# Altium footprint library IC_SOT.PcbLib: 31 footprints (part 2 of 2)
Each footprint in its own frame and in the unit in brackets; x right, y up, seen from the top. Pads: shape width x height; smd on the part's side, far side on the other; paste and mask are expansions set on the pad; w line width, h text height; cw(c..) or ccw(c..) is an arc to the next point about the centre after c.
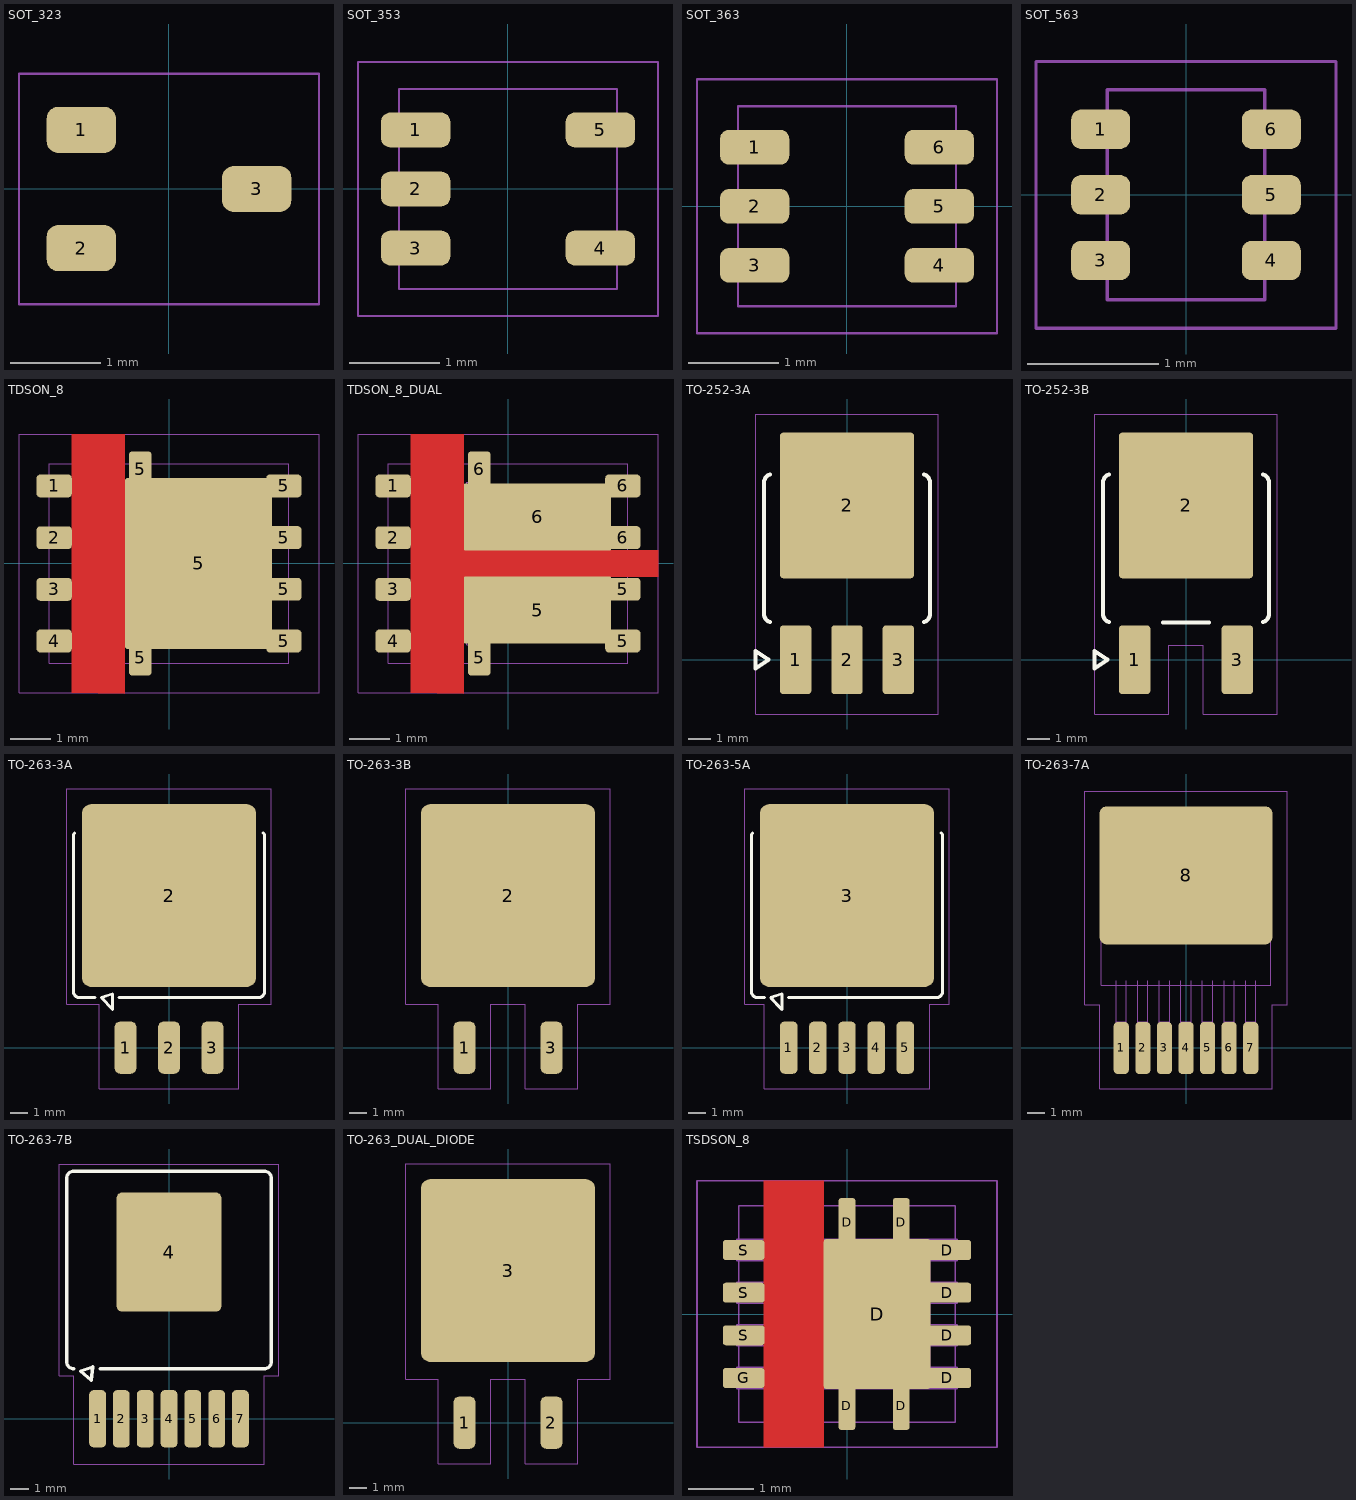
[diagram p1: the footprints below, top view; thin cyan lines are the x and y axes]

## SOT_323 [mil] "SC70"
pads (3):
  rrect50% 30x20 smd: 1(-38,25.6) 2(-38,-25.6) 3(38,0)
Top Courtyard:
  lines w1: -65,-50 65,-50 65,50 -65,50 -65,-50
3D body "SOT323.STEP": height 39.37, standoff 0, extent -45.28,-41.34 45.28,41.33

## SOT_353 [mil] "5-Lead SC70"
pads (5):
  rrect50% 30x15 smd mask+2: 1(-40,25.59) 2(-40,0) 3(-40,-25.59) 4(40,-25.59) 5(40,25.59)
Top Courtyard:
  lines w1: -65,-55 65,-55 65,55 -65,55 -65,-55
Top Component Outline:
  lines w1: -47.24,-43.31 47.25,-43.31 47.25,43.3 -47.24,43.3 -47.24,-43.31
3D body "SOT353.step": height 43.31, standoff 0, extent -47.24,-43.31 47.25,43.3

## SOT_363 [mil] "6-Lead SC70"
pads (6):
  rrect50% 30x15 smd mask+2: 1(-40,25.59) 2(-40,0) 3(-40,-25.59) 4(40,-25.59) 5(40,0) 6(40,25.59)
Top Solder:
  region: -17,54 -7,70 -27,70
Top Courtyard:
  lines w1: -65,-55 -65,55 65,55 65,-55 -65,-55
Top Component Outline:
  lines w1: -47.24,-43.31 -47.24,43.3 47.25,43.3 47.25,-43.31 -47.24,-43.31
3D body "SOT363.STEP": height 43.31, standoff 0, extent -47.24,-43.31 47.25,43.3

## SOT_563 [mm] "6-Lead SOT-563"
pads (6):
  rrect50% 0.45x0.3 smd mask+0.038: 1(-0.65,0.5) 2(-0.65,0) 3(-0.65,-0.5) 4(0.65,-0.5) 5(0.65,0) 6(0.65,0.5)
Top Solder:
  region: -0.724,0.826 -0.546,1.105 -0.902,1.105
Top Courtyard:
  lines w0.025: -1.143,-1.016 1.143,-1.016 1.143,1.016 -1.143,1.016 -1.143,-1.016
Top Component Outline:
  lines w0.025: -0.8,-0.6 -0.8,-0.4 -0.5,-0.4 -0.5,-0.6 -0.8,-0.6 ; -0.8,-0.1 -0.5,-0.1 -0.5,0.1 -0.8,0.1 -0.8,-0.1 ; -0.8,0.4 -0.8,0.6 -0.5,0.6 -0.5,0.4 -0.8,0.4 ; -0.6,-0.8 0.6,-0.8 0.6,0.8 -0.6,0.8 -0.6,-0.8 ; 0.5,-0.6 0.5,-0.4 0.8,-0.4 0.8,-0.6 0.5,-0.6 ; 0.5,-0.1 0.8,-0.1 0.8,0.1 0.5,0.1 0.5,-0.1 ; 0.5,0.4 0.5,0.6 0.8,0.6 0.8,0.4 0.5,0.4
3D body "User Library-SOT-563.step": height 0.57, standoff -0.01, extent -0.813,-0.8 0.813,0.8

## TDSON_8 [mil]
pads (11):
  rrect30% 34x22 smd mask+2: 1(-111,74.95) 2(-111,24.95) 3(-111,-25.05) 4(-111,-74.95) 5(111,-74.95) 5(111,-24.95) 5(111,25.05) 5(111,74.95)
  rrect30% 22x34 smd mask+2: 5(-27.81,-91.31) 5(-27.8,91.31)
  rrect3% 142x165 smd paste-200 mask+2: 5(28.54,0)
Top Layer:
  pour cut-out: -94,125 -43,125 -43,-126 -94,-125
Top Paste:
  rectangle: -35,10 20,65
  rectangle: 35,10 85,70
  rectangle: 35,-70 85,-10
  rectangle: -35,-65 20,-10
Top Courtyard:
  lines w1: -145,-125 145,-125 145,125 -145,125 -145,-125
Top Component Outline:
  lines w1: 97.05,82.97 115.94,82.97 121.06,81.99 121.06,67.81 115.94,66.83 97.05,66.83 97.05,33.07 115.94,33.07 121.06,32.09 121.06,17.91 115.94,16.93 97.05,16.93 97.05,-16.93 115.94,-16.93 121.06,-17.91 121.06,-32.09 115.94,-33.07 97.05,-33.07 97.05,-66.83 115.94,-66.83 121.06,-67.81 121.06,-81.99 115.94,-82.97 97.05,-82.97 97.05,-74.02 -19.68,-74.02 -19.68,-96.46 -20.67,-101.38 -34.84,-101.38 -35.83,-96.46 -35.83,-78.35 -39.96,-78.35 -39.96,78.35 -35.83,78.35 -35.83,96.46 -34.84,101.38 -20.67,101.38 -19.68,96.46 -19.68,74.02 97.05,74.02 97.05,83.07 ; -121.06,-81.99 -115.94,-82.97 -97.05,-82.97 -97.05,-66.83 -115.94,-66.83 -121.06,-67.81 -121.06,-81.99 ; -121.06,-32.09 -121.06,-17.91 -115.94,-16.93 -97.05,-16.93 -97.05,-33.07 -115.94,-33.07 -121.06,-32.09 ; -121.06,17.91 -115.94,16.93 -97.05,16.93 -97.05,33.07 -115.94,33.07 -121.06,32.09 -121.06,17.91 ; -121.06,67.91 -121.06,82.09 -115.94,83.07 -97.05,83.07 -97.05,66.93 -115.94,66.93 -121.06,67.91 ; -115.94,-96.46 115.94,-96.46 115.94,96.46 -115.94,96.46 -115.94,-96.46
3D body: height 41, standoff 40, extent -89.91,50.03 -69.99,69.99
3D body: height 11.02, standoff 0, extent -121.06,16.83 -97.05,33.07
3D body: height 11.02, standoff 0, extent -121.06,-33.17 -97.05,-16.93
3D body: height 11.02, standoff 0, extent -121.06,66.83 -97.05,83.07
3D body: height 11.02, standoff 0, extent -121.06,-83.07 -97.05,-66.83
3D body: height 11.02, standoff 0, extent -39.96,-101.38 121.06,101.38
3D body: height 40.94, standoff 0, extent -115.94,-96.46 115.94,96.46

## TDSON_8_DUAL [mil]
pads (12):
  rrect30% 34x22 smd mask+2: 1(-111,74.95) 2(-111,24.95) 3(-111,-25.05) 4(-111,-74.95) 5(111,-74.95) 5(111,-24.95) 6(111,25.05) 6(111,74.95)
  rrect30% 22x34 smd mask+2: 5(-27.81,-91.31) 6(-27.8,91.31)
  rrect3% 142x65 smd paste-200 mask+2: 5(28.54,-45) 6(28.54,45)
Top Layer:
  pour cut-out: -47,13 -47,-13 145,-13 145,13
  pour cut-out: -94,125 -43,125 -43,-126 -94,-125
Top Paste:
  rectangle: -35,-65 20,-20
  rectangle: 35,-70 85,-20
  rectangle: 35,20 85,70
  rectangle: -35,20 20,65
Top Courtyard:
  lines w1: -145,-125 -145,125 145,125 145,-125 -145,-125
Top Component Outline:
  lines w1: 97.05,-83.07 97.05,-74.02 -19.68,-74.02 -19.68,-96.46 -20.67,-101.38 -34.84,-101.38 -35.83,-96.46 -35.83,-78.35 -39.96,-78.35 -39.96,-14.96 97.05,-14.96 97.05,-16.93 115.94,-16.93 121.06,-17.91 121.06,-32.09 115.94,-33.07 97.05,-33.07 97.05,-66.83 115.94,-66.83 121.06,-67.81 121.06,-81.99 115.94,-82.97 97.05,-82.97 ; 97.05,82.97 115.94,82.97 121.06,81.99 121.06,67.81 115.94,66.83 97.05,66.83 97.05,33.07 115.94,33.07 121.06,32.09 121.06,17.91 115.94,16.93 97.05,16.93 97.05,14.96 -39.96,14.96 -39.96,78.35 -35.83,78.35 -35.83,96.46 -34.84,101.38 -20.67,101.38 -19.68,96.46 -19.68,74.02 97.05,74.02 97.05,83.07 ; -121.06,-81.99 -121.06,-67.81 -115.94,-66.83 -97.05,-66.83 -97.05,-82.97 -115.94,-82.97 -121.06,-81.99 ; -121.06,-32.09 -115.94,-33.07 -97.05,-33.07 -97.05,-16.93 -115.94,-16.93 -121.06,-17.91 -121.06,-32.09 ; -121.06,17.91 -121.06,32.09 -115.94,33.07 -97.05,33.07 -97.05,16.93 -115.94,16.93 -121.06,17.91 ; -121.06,67.91 -115.94,66.93 -97.05,66.93 -97.05,83.07 -115.94,83.07 -121.06,82.09 -121.06,67.91 ; -115.94,-96.46 -115.94,96.46 115.94,96.46 115.94,-96.46 -115.94,-96.46
3D body: height 41, standoff 40, extent -89.91,50.03 -69.99,69.99
3D body: height 40.94, standoff 0, extent -115.94,-96.46 115.94,96.46
3D body: height 11.02, standoff 0, extent -39.96,-101.38 121.06,-14.96
3D body: height 11.02, standoff 0, extent -39.96,14.96 121.06,101.38
3D body: height 11.02, standoff 0, extent -121.06,-83.07 -97.05,-66.83
3D body: height 11.02, standoff 0, extent -121.06,66.83 -97.05,83.07
3D body: height 11.02, standoff 0, extent -121.06,-33.17 -97.05,-16.93
3D body: height 11.02, standoff 0, extent -121.06,16.83 -97.05,33.07

## TO-252-3A [mil]
pads (4):
  rrect20% 55x120 smd paste-10: 1(-90,0) 3(90,0)
  rrect20% 55x120 smd: 2(0,0)
  rrect5% 235x255 smd paste-50: 2(0,270)
Top Overlay:
  lines w7: -134.89,65.82 cw(c-130,80) -145,80 -145,310 cw(c-130,310) -134.89,324.18 ; 134.89,65.82 ccw(c130,80) 145,80 145,310 ccw(c130,310) 134.89,324.18 ; -160,-15 -137,0 -160,15 -160,-15
Top Courtyard:
  lines w1: -160,-95 -160,430 160,430 160,-95 -160,-95
3D body: height 80, standoff 0, extent -130,80 130,310
3D body: height 55, standoff 40, extent -110,40 -70,135
3D body: height 55, standoff 0, extent -105,25 -75,40
3D body: height 15, standoff 0, extent -105,-50 -75,25
3D body: height 15, standoff 0, extent 75,-50 105,25
3D body: height 55, standoff 0, extent 75,25 105,40
3D body: height 55, standoff 40, extent 70,40 110,135
3D body: height 55, standoff 40, extent -20,40 20,135
3D body: height 20, standoff 0, extent -100,180 100,380
3D body: height 15, standoff 0, extent -15,-50 15,25
3D body: height 55, standoff 0, extent -15,25 15,40

## TO-252-3B [mil]
pads (3):
  rrect20% 55x120 smd paste-10: 1(-90,0) 3(90,0)
  rrect5% 235x255 smd paste-50: 2(0,270)
Top Overlay:
  lines w7: -134.89,65.82 cw(c-130,80) -145,80 -145,310 cw(c-130,310) -134.89,324.18 ; -40,65 40,65 ; 134.89,65.82 ccw(c130,80) 145,80 145,310 ccw(c130,310) 134.89,324.18 ; -160,-15 -137,0 -160,15 -160,-15
Top Courtyard:
  lines w1: -160,-95 -30,-95 -30,25 30,25 30,-95 160,-95 160,430 -160,430 -160,-95
3D body: height 80, standoff 0, extent -130,80 130,310
3D body: height 55, standoff 40, extent -110,40 -70,135
3D body: height 55, standoff 0, extent -105,25 -75,40
3D body: height 15, standoff 0, extent -105,-50 -75,25
3D body: height 15, standoff 0, extent 75,-50 105,25
3D body: height 55, standoff 0, extent 75,25 105,40
3D body: height 55, standoff 40, extent 70,40 110,135
3D body: height 55, standoff 40, extent -20,40 20,135
3D body: height 20, standoff 0, extent -100,180 100,380

## TO-263-3A [mil]
pads (4):
  rrect50% 50x120 smd: 1(-100,0) 2(0,0) 3(100,0)
  rrect10% 400x420 smd: 2(0,350)
Top Overlay:
  lines w7: -217,494 ccw(c-205,485) -220,485 -220,130 ccw(c-205,130) -205,115 -170,115 ; -115,115 205,115 ccw(c205,130) 220,130 220,485 ccw(c205,485) 216.79,494.27 ; -155,115 -130,124 -130,88 -155,115
Top Courtyard:
  lines w1: -235,100 -160,100 -160,-95 160,-95 160,100 235,100 235,595 -235,595 -235,100
3D body: height 55, standoff 40, extent 80,55 120,150
3D body: height 55, standoff 0, extent 85,40 115,55
3D body: height 15, standoff 0, extent 85,-35 115,40
3D body: height 55, standoff 40, extent -120,55 -80,150
3D body: height 55, standoff 0, extent -115,40 -85,55
3D body: height 15, standoff 0, extent -115,-35 -85,40
3D body: height 50, standoff 0, extent -201,450 201,530
3D body: height 180, standoff 0, extent -200,140 200,480
3D body: height 181, standoff 179, extent -163,172 -137,198
3D body: height 15, standoff 0, extent -15,-35 15,40
3D body: height 55, standoff 0, extent -15,40 15,55
3D body: height 55, standoff 40, extent -20,55 20,150

## TO-263-3B [mil]
pads (3):
  rrect50% 50x120 smd: 1(-100,0) 3(100,0)
  rrect10% 400x420 smd: 2(0,350)
Top Courtyard:
  lines w1: -235,100 -235,595 235,595 235,100 160,100 160,-95 40,-95 40,100 -40,100 -40,-95 -160,-95 -160,100 -235,100
3D body: height 181, standoff 179, extent -163,172 -137,198
3D body: height 180, standoff 0, extent -200,140 200,480
3D body: height 50, standoff 0, extent -201,450 201,530
3D body: height 15, standoff 0, extent -115,-35 -85,40
3D body: height 55, standoff 0, extent -115,40 -85,55
3D body: height 55, standoff 40, extent -120,55 -80,150
3D body: height 15, standoff 0, extent 85,-35 115,40
3D body: height 55, standoff 0, extent 85,40 115,55
3D body: height 55, standoff 40, extent 80,55 120,150
3D body: height 55, standoff 40, extent -20,75 20,150

## TO-263-5A [mil]
pads (6):
  rrect50% 40x120 smd: 1(-134,0) 2(-67,0) 3(0,0) 4(67,0) 5(134,0)
  rrect10% 400x420 smd: 3(0,350)
Top Overlay:
  lines w7: -217,494 ccw(c-205,485) -220,485 -220,130 ccw(c-205,130) -205,115 -190,115 ; -135,115 205,115 ccw(c205,130) 220,130 220,485 ccw(c205,485) 216.79,494.27 ; -175,115 -150,88 -150,124 -175,115
Top Courtyard:
  lines w1: -235,100 -235,595 235,595 235,100 190,100 190,-95 -190,-95 -190,100 -235,100
3D body: height 55, standoff 40, extent -12.5,55 12.5,150
3D body: height 55, standoff 0, extent -12.5,40 12.5,55
3D body: height 15, standoff 0, extent -12.5,-35 12.5,40
3D body: height 181, standoff 179, extent -163,172 -137,198
3D body: height 180, standoff 0, extent -200,140 200,480
3D body: height 50, standoff 0, extent -201,450 201,530
3D body: height 15, standoff 0, extent -79.5,-35 -54.5,40
3D body: height 55, standoff 0, extent -79.5,40 -54.5,55
3D body: height 55, standoff 40, extent -79.5,55 -54.5,150
3D body: height 15, standoff 0, extent -146.5,-35 -121.5,40
3D body: height 55, standoff 0, extent -146.5,40 -121.5,55
3D body: height 55, standoff 40, extent -146.5,55 -121.5,150
3D body: height 15, standoff 0, extent 54.5,-35 79.5,40
3D body: height 55, standoff 0, extent 54.5,40 79.5,55
3D body: height 55, standoff 40, extent 54.5,55 79.5,150
3D body: height 15, standoff 0, extent 121.5,-35 146.5,40
3D body: height 55, standoff 0, extent 121.5,40 146.5,55
3D body: height 55, standoff 40, extent 121.5,55 146.5,150

## TO-263-7A [mil]
pads (8):
  rrect50% 35x120 smd: 1(-150,0) 2(-100,0) 3(-50,0) 4(0,0) 5(50,0) 6(100,0) 7(150,0)
  rrect10% 400x320 smd paste-400: 8(0,400)
Top Paste:
  rectangle: -190,465 -110,550
  rectangle: -90,465 -10,550
  rectangle: 110,465 190,550
  rectangle: 10,465 90,550
  rectangle: -190,255 -110,340
  rectangle: -90,255 -10,340
  rectangle: 110,255 190,340
  rectangle: 10,255 90,340
  rectangle: 10,360 90,445
  rectangle: 110,360 190,445
  rectangle: -90,360 -10,445
  rectangle: -190,360 -110,445
Top Courtyard:
  lines w1: -235,100 -235,595 235,595 235,100 200,100 200,-95 -200,-95 -200,100 -235,100
Top Component Outline:
  lines w1: -161.81,41.34 -138.19,41.34 ; -161.81,61.02 -138.19,61.02 ; -161.81,155.51 -161.81,-41.34 -138.19,-41.34 -138.19,155.51 ; -111.81,41.34 -88.19,41.34 ; -111.81,61.02 -88.19,61.02 ; -111.81,155.51 -111.81,-41.34 -88.19,-41.34 -88.19,155.51 ; -61.81,41.34 -38.19,41.34 ; -61.81,61.02 -38.19,61.02 ; -61.81,155.51 -61.81,-41.34 -38.19,-41.34 -38.19,155.51 ; -11.81,41.34 11.81,41.34 ; -11.81,61.02 11.81,61.02 ; -11.81,155.51 -11.81,-41.34 11.81,-41.34 11.81,155.51 ; 38.19,41.34 61.81,41.34 ; 38.19,61.02 61.81,61.02 ; 38.19,155.51 38.19,-41.34 61.81,-41.34 61.81,155.51 ; 88.19,41.34 111.81,41.34 ; 88.19,61.02 111.81,61.02 ; 88.19,155.51 88.19,-41.34 111.81,-41.34 111.81,155.51 ; 138.19,41.34 161.81,41.34 ; 138.19,61.02 161.81,61.02 ; 138.19,155.51 138.19,-41.34 161.81,-41.34 161.81,155.51 ; -196.85,145.67 -196.85,509.84 196.85,509.84 196.85,145.67 -196.85,145.67 ; -185.04,498.03 -185.04,537.4 -118.11,549.21 118.11,549.21 185.04,537.4 185.04,498.03 167.32,498.03 167.32,251.97 -167.32,251.97 -167.32,498.03 -185.04,498.03
3D body: height 50, standoff 0, extent -185.04,251.97 185.04,549.21
3D body: height 173.23, standoff 0.39, extent -196.85,145.67 196.85,509.84
3D body: height 19.68, standoff 0, extent 38.19,-41.34 61.81,41.34
3D body: height 118.11, standoff 0, extent 38.19,41.34 61.81,61.02
3D body: height 122.05, standoff 94.49, extent 38.19,61.02 61.81,155.51
3D body: height 122.05, standoff 94.49, extent -11.81,61.02 11.81,155.51
3D body: height 118.11, standoff 0, extent -11.81,41.34 11.81,61.02
3D body: height 19.68, standoff 0, extent -11.81,-41.34 11.81,41.34
3D body: height 122.05, standoff 94.49, extent 88.19,61.02 111.81,155.51
3D body: height 118.11, standoff 0, extent 88.19,41.34 111.81,61.02
3D body: height 19.68, standoff 0, extent 88.19,-41.34 111.81,41.34
3D body: height 122.05, standoff 94.49, extent 138.19,61.02 161.81,155.51
3D body: height 118.11, standoff 0, extent 138.19,41.34 161.81,61.02
3D body: height 19.68, standoff 0, extent 138.19,-41.34 161.81,41.34
3D body: height 19.68, standoff 0, extent -61.81,-41.34 -38.19,41.34
3D body: height 118.11, standoff 0, extent -61.81,41.34 -38.19,61.02
3D body: height 122.05, standoff 94.49, extent -61.81,61.02 -38.19,155.51
3D body: height 19.68, standoff 0, extent -161.81,-41.34 -138.19,41.34
3D body: height 118.11, standoff 0, extent -161.81,41.34 -138.19,61.02
3D body: height 122.05, standoff 94.49, extent -161.81,61.02 -138.19,155.51
3D body: height 122.05, standoff 94.49, extent -111.81,61.02 -88.19,155.51
3D body: height 118.11, standoff 0, extent -111.81,41.34 -88.19,61.02
3D body: height 19.68, standoff 0, extent -111.81,-41.34 -88.19,41.34

## TO-263-7B [mil]
pads (8):
  rrect50% 35x120 smd: 1(-150,0) 2(-100,0) 3(-50,0) 4(0,0) 5(50,0) 6(100,0) 7(150,0)
  rrect10% 220.08x250 smd: 4(0,350)
Top Overlay:
  lines w7: -200,105 cw(c-200,120) -215,120 -215,505 cw(c-200,505) -200,520 200,520 cw(c200,505) 215,505 215,120 cw(c200,120) 200,105 -145,105 ; -185,100 -160,109 -163,81 -185,100
Top Courtyard:
  lines w1: -230,90 -200,90 -200,-95 200,-95 200,90 230,90 230,535 -230,535 -230,90
3D body: height 81, standoff 80, extent -163,152 -137,178
3D body: height 80, standoff 0, extent -200,120 200,505
3D body: height 55, standoff 40, extent 137.5,45 162.5,130
3D body: height 15, standoff 0, extent 137.5,-45 162.5,30
3D body: height 55, standoff 0, extent 137.5,30 162.5,45
3D body: height 55, standoff 40, extent 87.5,45 112.5,130
3D body: height 15, standoff 0, extent 87.5,-45 112.5,30
3D body: height 55, standoff 0, extent 87.5,30 112.5,45
3D body: height 55, standoff 40, extent 37.5,45 62.5,130
3D body: height 15, standoff 0, extent 37.5,-45 62.5,30
3D body: height 55, standoff 0, extent 37.5,30 62.5,45
3D body: height 55, standoff 40, extent -12.5,45 12.5,130
3D body: height 15, standoff 0, extent -12.5,-45 12.5,30
3D body: height 55, standoff 0, extent -12.5,30 12.5,45
3D body: height 55, standoff 40, extent -62.5,45 -37.5,130
3D body: height 15, standoff 0, extent -62.5,-45 -37.5,30
3D body: height 55, standoff 0, extent -62.5,30 -37.5,45
3D body: height 55, standoff 40, extent -112.5,45 -87.5,130
3D body: height 15, standoff 0, extent -112.5,-45 -87.5,30
3D body: height 55, standoff 0, extent -112.5,30 -87.5,45
3D body: height 55, standoff 40, extent -162.5,45 -137.5,130
3D body: height 15, standoff 0, extent -162.5,-45 -137.5,30
3D body: height 55, standoff 0, extent -162.5,30 -137.5,45

## TO-263_DUAL_DIODE [mil]
pads (3):
  rrect50% 50x120 smd: 1(-100,0) 2(100,0)
  rrect10% 400x420 smd: 3(0,350)
Top Courtyard:
  lines w1: -235,100 -235,595 235,595 235,100 160,100 160,-95 40,-95 40,100 -40,100 -40,-95 -160,-95 -160,100 -235,100
3D body: height 181, standoff 179, extent -163,172 -137,198
3D body: height 180, standoff 0, extent -200,140 200,480
3D body: height 50, standoff 0, extent -201,450 201,530
3D body: height 15, standoff 0, extent -115,-35 -85,40
3D body: height 55, standoff 0, extent -115,40 -85,55
3D body: height 55, standoff 40, extent -120,55 -80,150
3D body: height 15, standoff 0, extent 85,-35 115,40
3D body: height 55, standoff 0, extent 85,40 115,55
3D body: height 55, standoff 40, extent 80,55 120,150
3D body: height 55, standoff 40, extent -20,75 20,150

## TSDSON_8 [mil]
pads (13):
  rrect30% 10x29 smd mask+2: D(0,-55) D(0,55) D(32.48,-55) D(32.48,55)
  rrect5% 64x90 smd paste-200 mask+2: D(18,0)
  rrect30% 29x12 smd mask+2: D(60,-38.39) D(60,-12.8) D(60,12.8) D(60,38.39)
  rrect30% 25x12 smd mask+2: G(-62,-38.39) S(-62,-12.8) S(-62,12.8) S(-62,38.39)
Top Layer:
  pour cut-out: -50,80 -14,80 -14,-80 -50,-80
Top Paste:
  rectangle: -13,5 30,44
  rectangle: -13,-44 30,-5
Top Courtyard:
  lines w1: -90,-80 90,-80 90,80 -90,80 -90,-80
Top Component Outline:
  lines w1: -13.78,-44.68 ccw(c-13.78,-44.69) -13.78,-44.68 ; -13.78,-44.69 -3.94,-44.69 -3.94,-65.96 3.94,-65.96 3.94,-44.69 28.54,-44.69 28.54,-65.96 36.42,-65.96 36.42,-44.69 65.96,-44.69 ; -13.78,-44.69 -13.78,44.69 ; -13.78,44.68 ccw(c-13.78,44.69) -13.78,44.68 ; -13.78,44.69 -3.94,44.69 -3.94,65.96 3.94,65.96 3.94,44.69 28.54,44.69 28.54,65.96 36.42,65.96 36.42,44.69 65.96,44.69 ; 65.96,-44.68 ccw(c65.96,-44.69) 65.96,-44.68 ; 65.96,-44.69 65.96,-32.09 49.61,-32.09 49.61,-19.09 65.96,-19.09 65.96,-6.5 49.61,-6.5 49.61,6.5 65.96,6.5 65.96,19.09 49.61,19.09 49.61,32.09 65.96,32.09 65.96,44.69 ; 65.96,44.68 ccw(c65.96,44.69) 65.96,44.68 ; -65.96,-44.69 -65.96,-32.09 -49.21,-32.09 -49.21,-44.69 -65.96,-44.69 ; -65.96,-19.09 -49.21,-19.09 -49.21,-6.5 -65.96,-6.5 -65.96,-19.09 ; -65.96,6.5 -65.96,19.09 -49.21,19.09 -49.21,6.5 -65.96,6.5 ; -65.96,32.09 -49.21,32.09 -49.21,44.69 -65.96,44.69 -65.96,32.09 ; -64.96,-64.96 64.96,-64.96 64.96,64.96 -64.96,64.96 -64.96,-64.96
3D body: height 39.6, standoff 39, extent -50,30.02 -30.08,49.98
3D body: height 10, standoff 0, extent -65.96,-19.09 -49.21,-6.5
3D body: height 39.37, standoff 0, extent -64.96,-64.96 64.96,64.96
3D body: height 10, standoff 0, extent -65.96,6.5 -49.21,19.09
3D body: height 10, standoff 0, extent -65.96,-44.69 -49.21,-32.09
3D body: height 10, standoff 0, extent -65.96,32.09 -49.21,44.69
3D body: height 10, standoff 0, extent 49.21,-44.69 65.96,-32.09
3D body: height 10, standoff 0, extent 49.21,32.09 65.96,44.69
3D body: height 10, standoff 0, extent 49.21,-19.09 65.96,-6.5
3D body: height 10, standoff 0, extent 49.21,6.5 65.96,19.09
3D body: height 10, standoff 0, extent 28.54,-65.96 36.42,-44.69
3D body: height 10, standoff 0, extent -3.94,-65.96 3.94,-44.69
3D body: height 10, standoff 0, extent -3.94,44.69 3.94,65.96
3D body: height 10, standoff 0, extent 28.54,44.69 36.42,65.96